# EAGLE library part 10PIN-HEADER (library StevenV1)
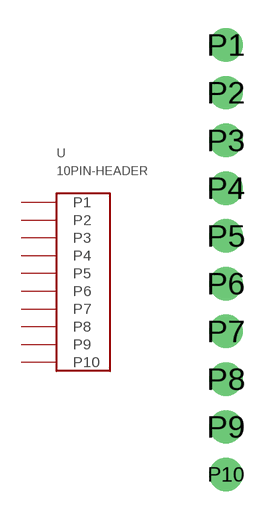
[diagram p11: symbol with the pads of 10PIN_HEADER; footprint 10PIN_HEADER]

Designator prefix -

## 10PIN-HEADER  [10PIN_HEADER]
P1  P1
P2  P2
P3  P3
P4  P4
P5  P5
P6  P6
P7  P7
P8  P8
P9  P9
P10  P10

## Footprint 10PIN_HEADER (pad centres in mm)
drill 1 pad 1.778: P1 0,11.43; P2 0,8.89; P3 0,6.35; P4 0,3.81; P5 0,1.27; P6 0,-1.27; P7 0,-3.81; P8 0,-6.35; P9 0,-8.89; P10 0,-11.43